# Altium schematic symbol library SCH - BJT - ROHM NPN SOT723 BEC.SchLib: 1 symbol
Pins are listed as number, name and electrical type; pins without a type are passive.

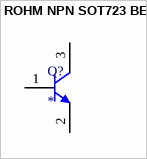
[diagram p0: symbol ROHM NPN SOT723 BEC]

## ROHM NPN SOT723 BEC
designator Q?
pins: 1 B, 2 E, 3 C